# EAGLE library part PIC32MX320F128L (library microchip)
PIC32MX320F128L edit this description Auto generated by make-symbol-device-package-bsdl.ulp Rev. 25 Source: PIC32MX320F128L.bsdl
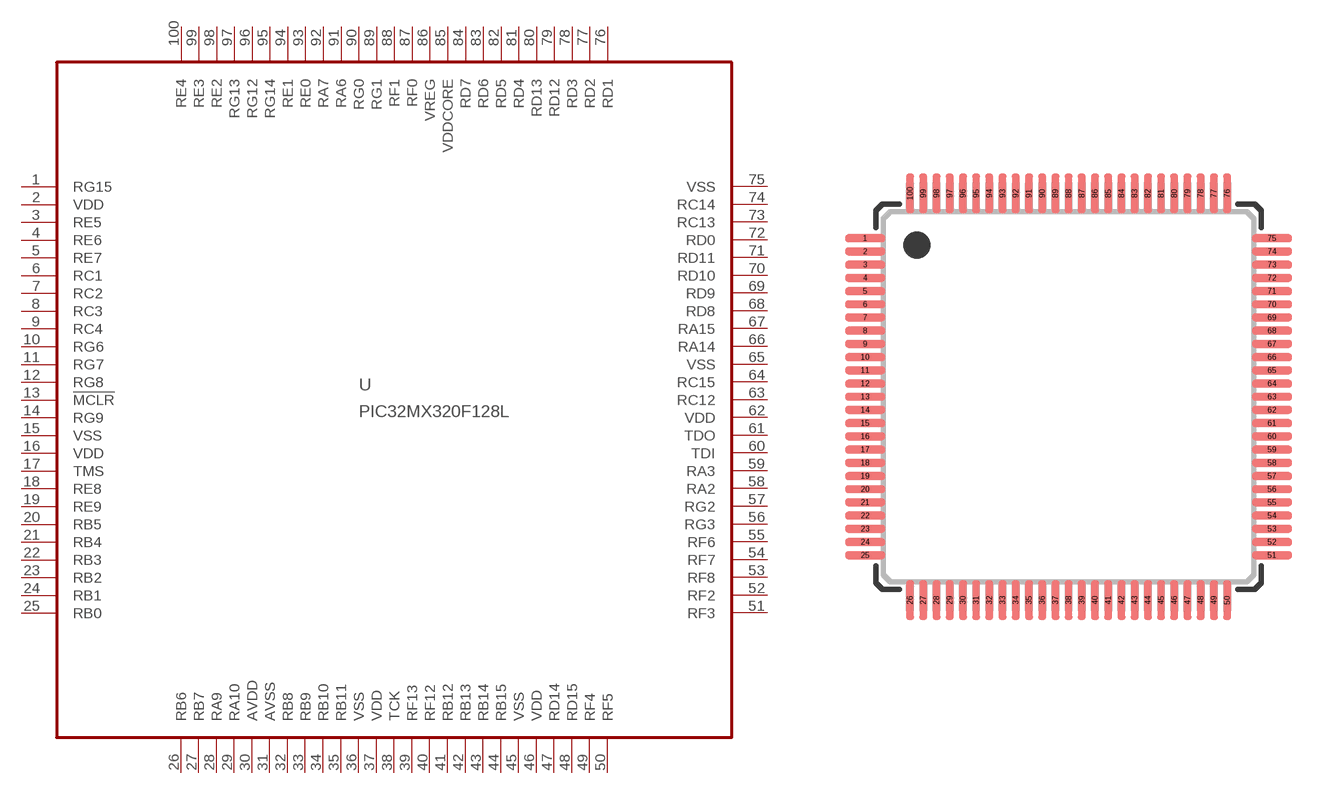
[diagram p98: symbol with the pads of TQFP100; footprint TQFP100]

Designator prefix U

## PIC32MX320F128L  [TQFP100]
1  RG15
2  VDD  pwr
3  RE5
4  RE6
5  RE7
6  RC1
7  RC2
8  RC3
9  RC4
10  RG6
11  RG7
12  RG8
13  !MCLR  in
14  RG9
15  VSS  pwr
16  VDD  pwr
17  TMS  in
18  RE8
19  RE9
20  RB5
21  RB4
22  RB3
23  RB2
24  RB1
25  RB0
26  RB6
27  RB7
28  RA9
29  RA10
30  AVDD  pwr
31  AVSS  pwr
32  RB8
33  RB9
34  RB10
35  RB11
36  VSS  pwr
37  VDD  pwr
38  TCK  in
39  RF13
40  RF12
41  RB12
42  RB13
43  RB14
44  RB15
45  VSS  pwr
46  VDD  pwr
47  RD14
48  RD15
49  RF4
50  RF5
51  RF3
52  RF2
53  RF8
54  RF7
55  RF6
56  RG3
57  RG2
58  RA2
59  RA3
60  TDI  in
61  TDO  out
62  VDD  pwr
63  RC12
64  RC15
65  VSS  pwr
66  RA14
67  RA15
68  RD8
69  RD9
70  RD10
71  RD11
72  RD0
73  RC13
74  RC14
75  VSS  pwr
76  RD1
77  RD2
78  RD3
79  RD12
80  RD13
81  RD4
82  RD5
83  RD6
84  RD7
85  VDDCORE  pwr
86  VREG  pas
87  RF0
88  RF1
89  RG1
90  RG0
91  RA6
92  RA7
93  RE0
94  RE1
95  RG14
96  RG12
97  RG13
98  RE2
99  RE3
100  RE4

## Footprint TQFP100 (pad centres in mm)
Plastic Thin Quad Flat Pack
smd 1.5 x 0.3: 1 -7.7,6; 2 -7.7,5.5; 3 -7.7,5; 4 -7.7,4.5; 5 -7.7,4; 6 -7.7,3.5; 7 -7.7,3; 8 -7.7,2.5; 9 -7.7,2; 10 -7.7,1.5; 11 -7.7,1; 12 -7.7,0.5; 13 -7.7,0; 14 -7.7,-0.5; 15 -7.7,-1; 16 -7.7,-1.5; 17 -7.7,-2; 18 -7.7,-2.5; 19 -7.7,-3; 20 -7.7,-3.5; 21 -7.7,-4; 22 -7.7,-4.5; 23 -7.7,-5; 24 -7.7,-5.5; 25 -7.7,-6; 51 7.7,-6; 52 7.7,-5.5; 53 7.7,-5; 54 7.7,-4.5; 55 7.7,-4; 56 7.7,-3.5; 57 7.7,-3; 58 7.7,-2.5; 59 7.7,-2; 60 7.7,-1.5; 61 7.7,-1; 62 7.7,-0.5; 63 7.7,0; 64 7.7,0.5; 65 7.7,1; 66 7.7,1.5; 67 7.7,2; 68 7.7,2.5; 69 7.7,3; 70 7.7,3.5; 71 7.7,4; 72 7.7,4.5; 73 7.7,5; 74 7.7,5.5; 75 7.7,6
smd 0.3 x 1.5: 26 -6,-7.7; 27 -5.5,-7.7; 28 -5,-7.7; 29 -4.5,-7.7; 30 -4,-7.7; 31 -3.5,-7.7; 32 -3,-7.7; 33 -2.5,-7.7; 34 -2,-7.7; 35 -1.5,-7.7; 36 -1,-7.7; 37 -0.5,-7.7; 38 0,-7.7; 39 0.5,-7.7; 40 1,-7.7; 41 1.5,-7.7; 42 2,-7.7; 43 2.5,-7.7; 44 3,-7.7; 45 3.5,-7.7; 46 4,-7.7; 47 4.5,-7.7; 48 5,-7.7; 49 5.5,-7.7; 50 6,-7.7; 76 6,7.7; 77 5.5,7.7; 78 5,7.7; 79 4.5,7.7; 80 4,7.7; 81 3.5,7.7; 82 3,7.7; 83 2.5,7.7; 84 2,7.7; 85 1.5,7.7; 86 1,7.7; 87 0.5,7.7; 88 0,7.7; 89 -0.5,7.7; 90 -1,7.7; 91 -1.5,7.7; 92 -2,7.7; 93 -2.5,7.7; 94 -3,7.7; 95 -3.5,7.7; 96 -4,7.7; 97 -4.5,7.7; 98 -5,7.7; 99 -5.5,7.7; 100 -6,7.7